# Altium schematic symbol library level_shifter_schLib.SchLib: 3 symbols
Pins are listed as number, name and electrical type; pins without a type are passive.

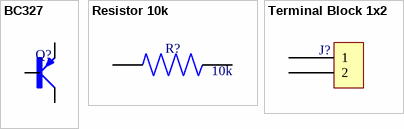
[diagram p0: symbols BC327 to Terminal Block 1x2]

## BC327
designator Q?  (value not drawn)
Bipolar (BJT) Transistor PNP 45V 800mA 100MHz 625mW Through Hole TO-92-3
footprint TO-92-3
pins: B, C, E

## Resistor 10k
designator R?  value 10k  (hidden comment: *)
Carbon Film Resistor Through Hole 10k
footprint THT RESISTOR
pins: 1, 2

## Terminal Block 1x2
designator J?  (value not drawn)
Fixed Terminal Block , screw type, 5.08 , horizontal, 2 poles, CUI Blue, slotted screw, PCB mount
footprint TERMINAL BLOCK 1X2
pins: 1, 2